# Altium footprint library ProjCLib.PcbLib: 28 footprints (part 1 of 2)
Each footprint in its own frame and in the unit in brackets; x right, y up, seen from the top. Pads: shape width x height; smd on the part's side, far side on the other; paste and mask are expansions set on the pad; w line width, h text height; cw(c..) or ccw(c..) is an arc to the next point about the centre after c.
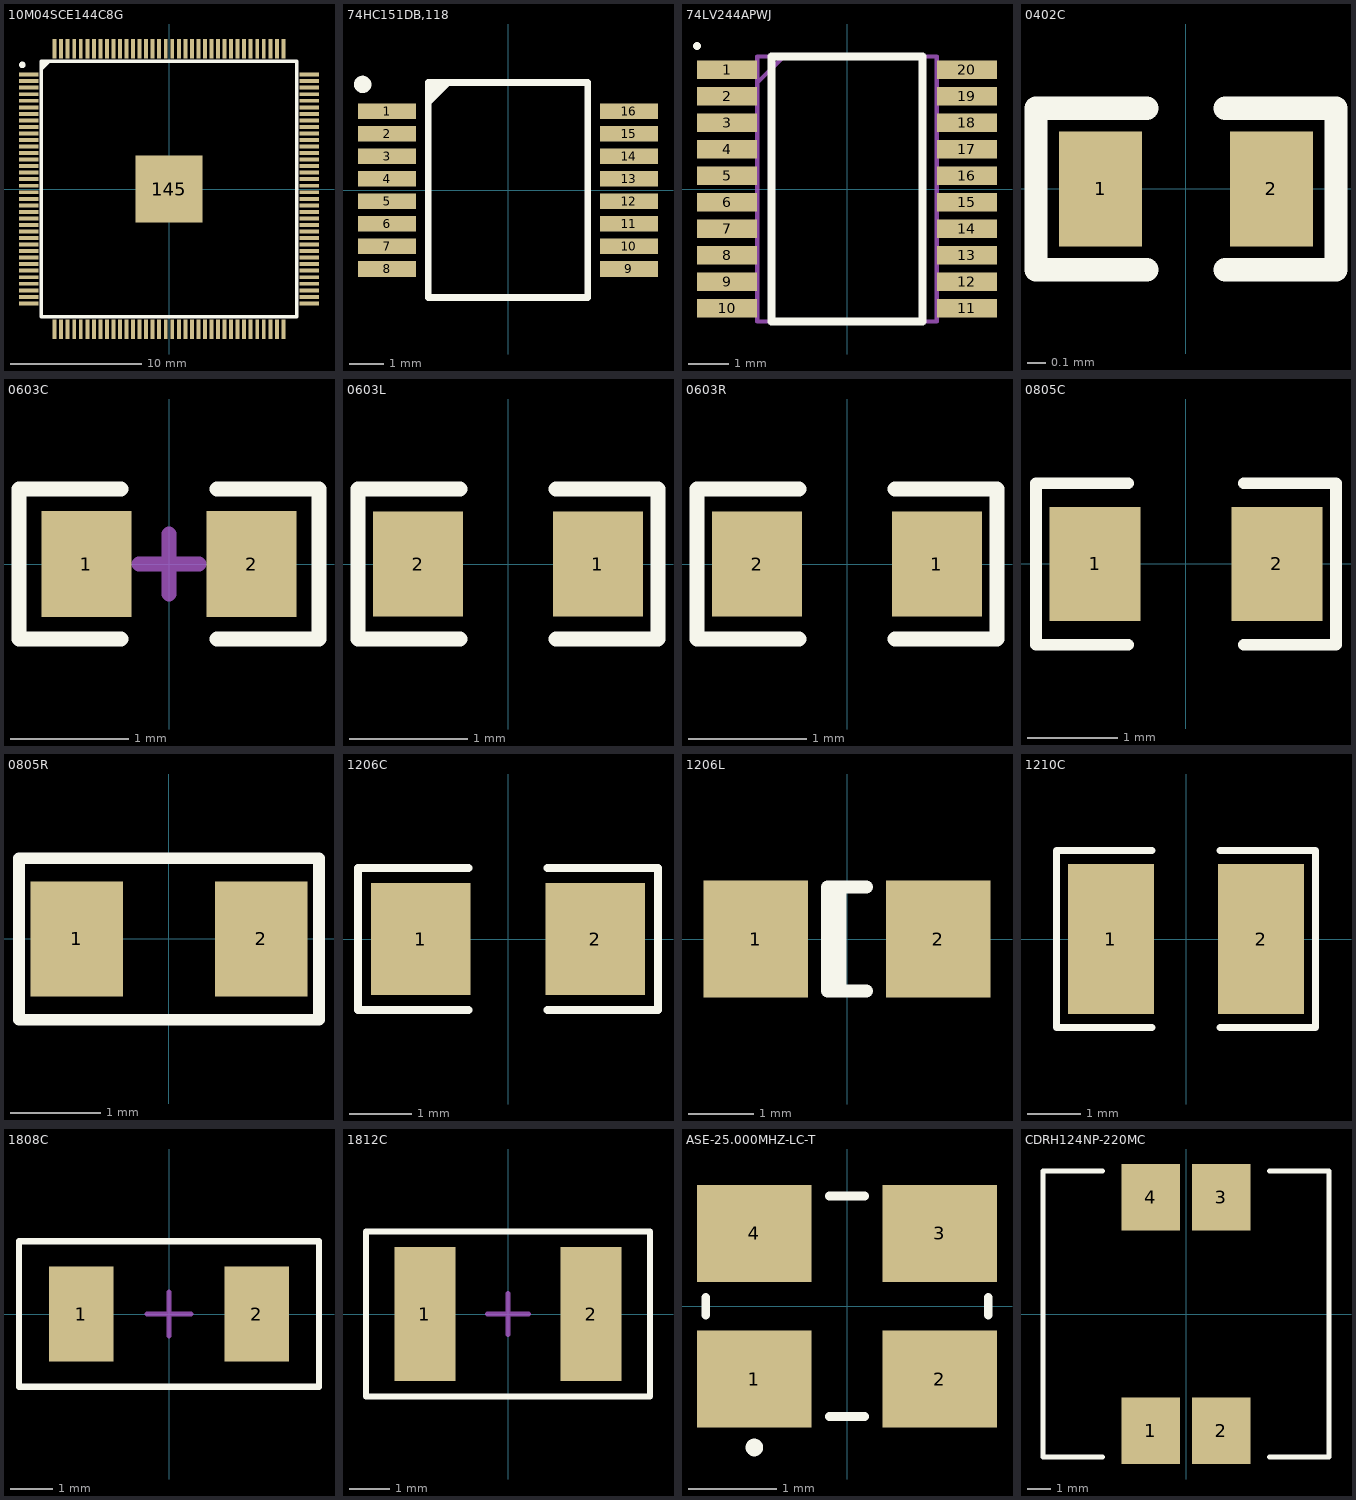
[diagram p0: the footprints below, top view; thin cyan lines are the x and y axes]

## 10M04SCE144C8G [mm]
pads (145):
  rect 1.475x0.3 smd: 1(-10.738,8.75) 2(-10.738,8.25) 3(-10.738,7.75) 4(-10.738,7.25) 5(-10.738,6.75) 6(-10.738,6.25) 7(-10.738,5.75) 8(-10.738,5.25) 9(-10.738,4.75) 10(-10.738,4.25) 11(-10.738,3.75) 12(-10.738,3.25) 13(-10.738,2.75) 14(-10.738,2.25) 15(-10.738,1.75) 16(-10.738,1.25) 17(-10.738,0.75) 18(-10.738,0.25) 19(-10.738,-0.25) 20(-10.738,-0.75) 21(-10.738,-1.25) 22(-10.738,-1.75) 23(-10.738,-2.25) 24(-10.738,-2.75) 25(-10.738,-3.25) 26(-10.738,-3.75) 27(-10.738,-4.25) 28(-10.738,-4.75) 29(-10.738,-5.25) 30(-10.738,-5.75) 31(-10.738,-6.25) 32(-10.738,-6.75) 33(-10.738,-7.25) 34(-10.738,-7.75) 35(-10.738,-8.25) 36(-10.738,-8.75) 73(10.738,-8.75) 74(10.738,-8.25) 75(10.738,-7.75) 76(10.738,-7.25) 77(10.738,-6.75) 78(10.738,-6.25) 79(10.738,-5.75) 80(10.738,-5.25) 81(10.738,-4.75) 82(10.738,-4.25) 83(10.738,-3.75) 84(10.738,-3.25) 85(10.738,-2.75) 86(10.738,-2.25) 87(10.738,-1.75) 88(10.738,-1.25) 89(10.738,-0.75) 90(10.738,-0.25) 91(10.738,0.25) 92(10.738,0.75) 93(10.738,1.25) 94(10.738,1.75) 95(10.738,2.25) 96(10.738,2.75) 97(10.738,3.25) 98(10.738,3.75) 99(10.738,4.25) 100(10.738,4.75) 101(10.738,5.25) 102(10.738,5.75) 103(10.738,6.25) 104(10.738,6.75) 105(10.738,7.25) 106(10.738,7.75) 107(10.738,8.25) 108(10.738,8.75)
  rect 0.3x1.475 smd: 37(-8.75,-10.738) 38(-8.25,-10.738) 39(-7.75,-10.738) 40(-7.25,-10.738) 41(-6.75,-10.738) 42(-6.25,-10.738) 43(-5.75,-10.738) 44(-5.25,-10.738) 45(-4.75,-10.738) 46(-4.25,-10.738) 47(-3.75,-10.738) 48(-3.25,-10.738) 49(-2.75,-10.738) 50(-2.25,-10.738) 51(-1.75,-10.738) 52(-1.25,-10.738) 53(-0.75,-10.738) 54(-0.25,-10.738) 55(0.25,-10.738) 56(0.75,-10.738) 57(1.25,-10.738) 58(1.75,-10.738) 59(2.25,-10.738) 60(2.75,-10.738) 61(3.25,-10.738) 62(3.75,-10.738) 63(4.25,-10.738) 64(4.75,-10.738) 65(5.25,-10.738) 66(5.75,-10.738) 67(6.25,-10.738) 68(6.75,-10.738) 69(7.25,-10.738) 70(7.75,-10.738) 71(8.25,-10.738) 72(8.75,-10.738) 109(8.75,10.738) 110(8.25,10.738) 111(7.75,10.738) 112(7.25,10.738) 113(6.75,10.738) 114(6.25,10.738) 115(5.75,10.738) 116(5.25,10.738) 117(4.75,10.738) 118(4.25,10.738) 119(3.75,10.738) 120(3.25,10.738) 121(2.75,10.738) 122(2.25,10.738) 123(1.75,10.738) 124(1.25,10.738) 125(0.75,10.738) 126(0.25,10.738) 127(-0.25,10.738) 128(-0.75,10.738) 129(-1.25,10.738) 130(-1.75,10.738) 131(-2.25,10.738) 132(-2.75,10.738) 133(-3.25,10.738) 134(-3.75,10.738) 135(-4.25,10.738) 136(-4.75,10.738) 137(-5.25,10.738) 138(-5.75,10.738) 139(-6.25,10.738) 140(-6.75,10.738) 141(-7.25,10.738) 142(-7.75,10.738) 143(-8.25,10.738) 144(-8.75,10.738)
  rect 5.15x5.15 smd: 145(0,0)
Top Overlay:
  circle w0.25: c-11.225,9.5 r0.125
  region: -9.779,9.779 -9.779,9.017 -9.017,9.779
  lines w0.254: -9.779,-9.779 -9.779,9.779 9.779,9.779 9.779,-9.779 -9.779,-9.779
3D body "10M04SCE144C8G.stp": height 1.65, standoff 0, extent -11,-11 11,11

## 74HC151DB,118 [mm]
pads (16):
  rect 1.675x0.45 smd: 1(-3.488,2.275) 2(-3.488,1.625) 3(-3.488,0.975) 4(-3.488,0.325) 5(-3.488,-0.325) 6(-3.488,-0.975) 7(-3.488,-1.625) 8(-3.488,-2.275) 9(3.488,-2.275) 10(3.488,-1.625) 11(3.488,-0.975) 12(3.488,-0.325) 13(3.488,0.325) 14(3.488,0.975) 15(3.488,1.625) 16(3.488,2.275)
Top Overlay:
  circle w0.25: c-4.191,3.048 r0.125
  region: -2.286,3.175 -2.286,2.413 -1.524,3.175
  lines w0.2: -2.3,-3.1 2.3,-3.1 2.3,3.1 -2.3,3.1 -2.3,-3.1
3D body "74HC151DB,118.stp": height 2, standoff 0, extent -3.875,-3.1 3.875,3.1

## 74LV244APWJ [mm]
pads (20):
  rect 1.475x0.45 smd: 1(-2.938,2.925) 2(-2.938,2.275) 3(-2.938,1.625) 4(-2.938,0.975) 5(-2.938,0.325) 6(-2.938,-0.325) 7(-2.938,-0.975) 8(-2.938,-1.625) 9(-2.938,-2.275) 10(-2.938,-2.925) 11(2.938,-2.925) 12(2.938,-2.275) 13(2.938,-1.625) 14(2.938,-0.975) 15(2.938,-0.325) 16(2.938,0.325) 17(2.938,0.975) 18(2.938,1.625) 19(2.938,2.275) 20(2.938,2.925)
Top Overlay:
  lines w0.2: -3.675,3.5 -3.672,3.5 ; -1.85,-3.25 1.85,-3.25 1.85,3.25 -1.85,3.25 -1.85,-3.25
Mechanical 13:
  lines w0.1: -2.2,2.6 -1.55,3.25 ; -2.2,-3.25 2.2,-3.25 2.2,3.25 -2.2,3.25 -2.2,-3.25
3D body "74LV244APWJ.stp": height 1.1, standoff 0, extent -3.2,-3.25 3.2,3.25

## 0402C [mil]
height 39.37
pads (2):
  rect 18x25 smd: 1(-18.5,0) 2(18.5,0)
Top Overlay:
  lines w5: -8.5,-17.5 -32.5,-17.5 -32.5,17.5 -8.5,17.5 ; 8.5,-17.5 32.5,-17.5 32.5,17.5 8.5,17.5
3D body "User Library-cap_0402.step": height 19.68, standoff 0, extent -19.69,-9.84 19.69,9.84

## 0603C [mm]
pads (2):
  rect 0.762x0.9 smd: 1(-0.7,0) 2(0.7,0)
Top Overlay:
  lines w0.127: -0.406,-0.635 -1.27,-0.635 -1.27,0.635 -0.406,0.635 ; 0.406,-0.635 1.27,-0.635 1.27,0.635 0.406,0.635
Mechanical 15:
  lines w0.127: -0.254,0 0.254,0 ; 0,-0.254 0,0.254
3D body "CAPC1608X92N EIA 0603.step": height 0.93, standoff 0.01, extent -0.8,-0.4 0.8,0.4

## 0603L [mil]
pads (2):
  rect 30x35 smd: 1(30,0) 2(-30,0)
Top Overlay:
  lines w5: -16,-25 -50,-25 -50,25 -16,25 ; 16,-25 50,-25 50,25 16,25
3D body "User Library-FB_1608.STEP": height 31.5, standoff 0, extent -31.49,-15.74 31.5,15.75

## 0603R [mil]
pads (2):
  rect 30x35 smd: 1(30,0) 2(-30,0)
Top Overlay:
  lines w5: -16,-25 -50,-25 -50,25 -16,25 ; 16,-25 50,-25 50,25 16,25
3D body "User Library-RESC1608X05N.step": height 17.76, standoff 0, extent -30.51,-16.73 30.52,16.74

## 0805C [mm]
pads (2):
  rect 1x1.25 smd: 1(-1,0) 2(1,0)
Top Overlay:
  lines w0.127: -0.635,-0.889 -1.651,-0.889 -1.651,0.889 -0.635,0.889 ; 0.635,-0.889 1.651,-0.889 1.651,0.889 0.635,0.889
3D body "CAPC2012X90N EIA 0805.step": height 0.91, standoff 0.01, extent -1,-0.6 1,0.6

## 0805R [mil]
pads (2):
  rect 40x50 smd: 1(-40,0) 2(40,0)
Top Overlay:
  lines w5: -65,-35 65,-35 65,35 -65,35 -65,-35
3D body "User Library-RESC2012X05N.step": height 17.76, standoff 0, extent -39.36,-24.6 39.38,24.61

## 1206C [mm]
pads (2):
  rect 1.6x1.8 smd: 1(-1.4,0) 2(1.4,0)
Top Overlay:
  lines w0.127: -0.635,-1.143 -2.413,-1.143 -2.413,1.143 -0.635,1.143 ; 0.635,-1.143 2.413,-1.143 2.413,1.143 0.635,1.143
3D body "SW3dPS-1206 SMD Capacitor.STEP": height 1, standoff 0, extent -1.625,-0.813 1.575,0.788

## 1206L [mm]
pads (2):
  rect 1.6x1.8 smd: 1(-1.4,0) 2(1.4,0)
Top Overlay:
  lines w0.2: -0.11,-0.8 -0.11,0.8 ; 0.3,-0.8 -0.3,-0.8 -0.3,0.8 0.3,0.8
3D body "SW3dPS-1206 SMD Capacitor.STEP": height 1, standoff 0, extent -1.625,-0.813 1.575,0.788

## 1210C [mm]
pads (2):
  rect 1.6x2.794 smd: 1(-1.4,0) 2(1.4,0)
Top Overlay:
  lines w0.127: -0.635,-1.651 -2.413,-1.651 -2.413,1.651 -0.635,1.651 ; 0.635,-1.651 2.413,-1.651 2.413,1.651 0.635,1.651
3D body "User Library-cap_1210 (1).step": height 2.5, standoff 0, extent -1.6,-1.25 1.6,1.25

## 1808C [mm]
pads (2):
  rect 1.51x2.22 smd: 1(-2.05,0) 2(2.05,0)
Top Overlay:
  lines w0.15: -3.5,-1.7 3.5,-1.7 3.5,1.7 -3.5,1.7 -3.5,-1.7
Mechanical 15:
  lines w0.127: -0.508,0 0.508,0 ; 0,-0.508 0,0.508
3D body "C1808W154KCRACTU.stp": height 1.75, standoff 0, extent -2.35,-1 2.35,1

## 1812C [mm]
pads (2):
  rect 1.51x3.302 smd: 1(-2.05,0) 2(2.05,0)
Top Overlay:
  lines w0.15: -3.5,-2.032 3.5,-2.032 3.5,2.032 -3.5,2.032 -3.5,-2.032
Mechanical 15:
  lines w0.127: -0.508,0 0.508,0 ; 0,-0.508 0,0.508
3D body "User Library-SMD CAPACITOR.step": height 1.01, standoff 0.01, extent -2.25,-1.6 2.25,1.6

## ASE-25.000MHZ-LC-T [mm]
pads (4):
  rect 1.3x1.1 smd: 1(-1.05,-0.825) 2(1.05,-0.825) 3(1.05,0.825) 4(-1.05,0.825)
Top Overlay:
  lines w0.1: -1.6,-0.1 -1.6,0.1 ; -0.2,-1.25 0.2,-1.25 ; -0.2,1.25 0.2,1.25 ; 1.6,-0.1 1.6,0.1 ; -1.1,-1.6 ccw(c-1.05,-1.6) -1,-1.6 ccw(c-1.05,-1.6) -1.1,-1.6
3D body "ASE-25.000MHZ-LC-T.stp": height 1.1, standoff 0, extent -1.6,-1.265 1.6,1.265

## CDRH124NP-220MC [mm]
pads (4):
  rect 2.45x2.8 smd: 1(-1.475,-4.9) 2(1.475,-4.9) 3(1.475,4.9) 4(-1.475,4.9)
Top Overlay:
  lines w0.203: -3.5,-6 -6,-6 -6,6 -3.5,6 ; 3.5,-6 6,-6 6,6 3.5,6
3D body "CDRH124NP-220MC.stp": height 4.6, standoff 0, extent -6,-6.055 6,6.055